# Altium schematic symbol library DSPIC33FJ12MC.SchLib: 1 symbol
Pins are listed as number, name and electrical type; pins without a type are passive.

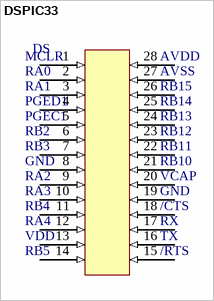
[diagram p0: symbol DSPIC33]

## DSPIC33
designator DS
footprint DSPIC33
pins: 1 (in), 2 (in), 3 (in), 4 (in), 5 (in), 6 (in), 7 (in), 8 (in), 9 (in), 10 (in), 11 (in), 12 (in), 13 (in), 14 (in), 15 (in), 16 (in), 17 (in), 18 (in), 19 (in), 20 (in), 21 (in), 22 (in), 23 (in), 24 (in), 25 (in), 26 (in), 27 (in), 28 (in)
text: MCLR; AVDD; RA0; AVSS; RA1; RB15; PGED1; RB14; PGEC1; RB13; RB2; RB12; RB3; RB11; GND; RB10; RA2; VCAP; RA3; RB4; /CTS; RA4; RX; VDD; TX; RB5; /RTS